# EAGLE library part MOLEX_SL_34 (library molex-sl-connectors_jw)
Molex SL-Series PCB Header, 34-Pos, 0.1" (2.54mm) Centers
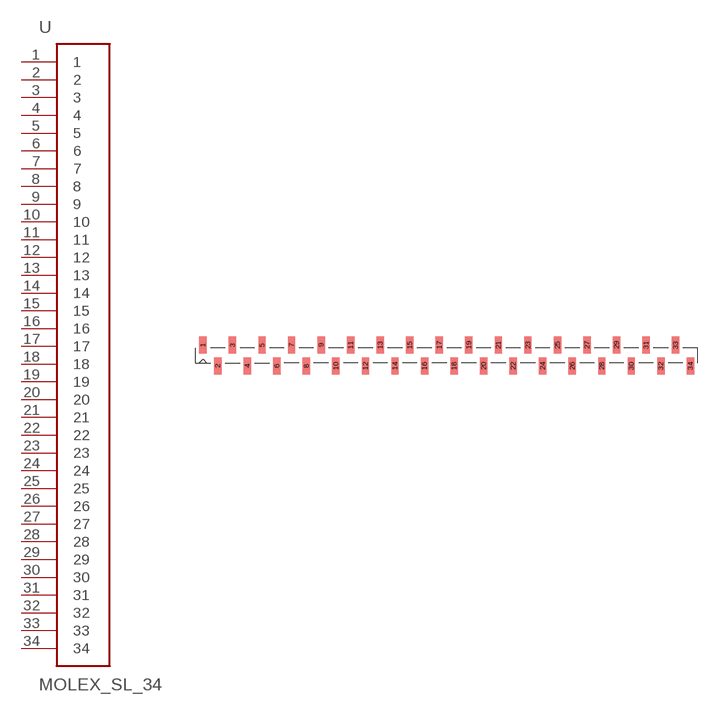
[diagram p28: symbol with the pads of SL_87898_34; footprint SL_87898_34]

Designator prefix -

## MOLEX_SL_34-87898  [SL_87898_34]
1  1
2  2
3  3
4  4
5  5
6  6
7  7
8  8
9  9
10  10
11  11
12  12
13  13
14  14
15  15
16  16
17  17
18  18
19  19
20  20
21  21
22  22
23  23
24  24
25  25
26  26
27  27
28  28
29  29
30  30
31  31
32  32
33  33
34  34

## Footprint SL_87898_34 (pad centres in mm)
SMD Vertical Header (no latch or pegs) Package also includes Pick-N-Place Cap Tube packaging w/o Pick-N-Place Cap: 87898-3421 87898-3422 87898-3424 87898-3425 87898-3426 Tube packaging w/ Pick-N-Place Cap: 87898-3431 87898-3432 87898-3434 87898-3435 87898-3436
smd 1.27 x 2.946: 1 -41.91,1.803; 2 -39.37,-1.803; 3 -36.83,1.803; 4 -34.29,-1.803; 5 -31.75,1.803; 6 -29.21,-1.803; 7 -26.67,1.803; 8 -24.13,-1.803; 9 -21.59,1.803; 10 -19.05,-1.803; 11 -16.51,1.803; 12 -13.97,-1.803; 13 -11.43,1.803; 14 -8.89,-1.803; 15 -6.35,1.803; 16 -3.81,-1.803; 17 -1.27,1.803; 18 1.27,-1.803; 19 3.81,1.803; 20 6.35,-1.803; 21 8.89,1.803; 22 11.43,-1.803; 23 13.97,1.803; 24 16.51,-1.803; 25 19.05,1.803; 26 21.59,-1.803; 27 24.13,1.803; 28 26.67,-1.803; 29 29.21,1.803; 30 31.75,-1.803; 31 34.29,1.803; 32 36.83,-1.803; 33 39.37,1.803; 34 41.91,-1.803